# Altium footprint library микросхемы прочие.PcbLib: 30 footprints (part 1 of 2)
Each footprint in its own frame and in the unit in brackets; x right, y up, seen from the top. Pads: shape width x height; smd on the part's side, far side on the other; paste and mask are expansions set on the pad; w line width, h text height; cw(c..) or ccw(c..) is an arc to the next point about the centre after c.
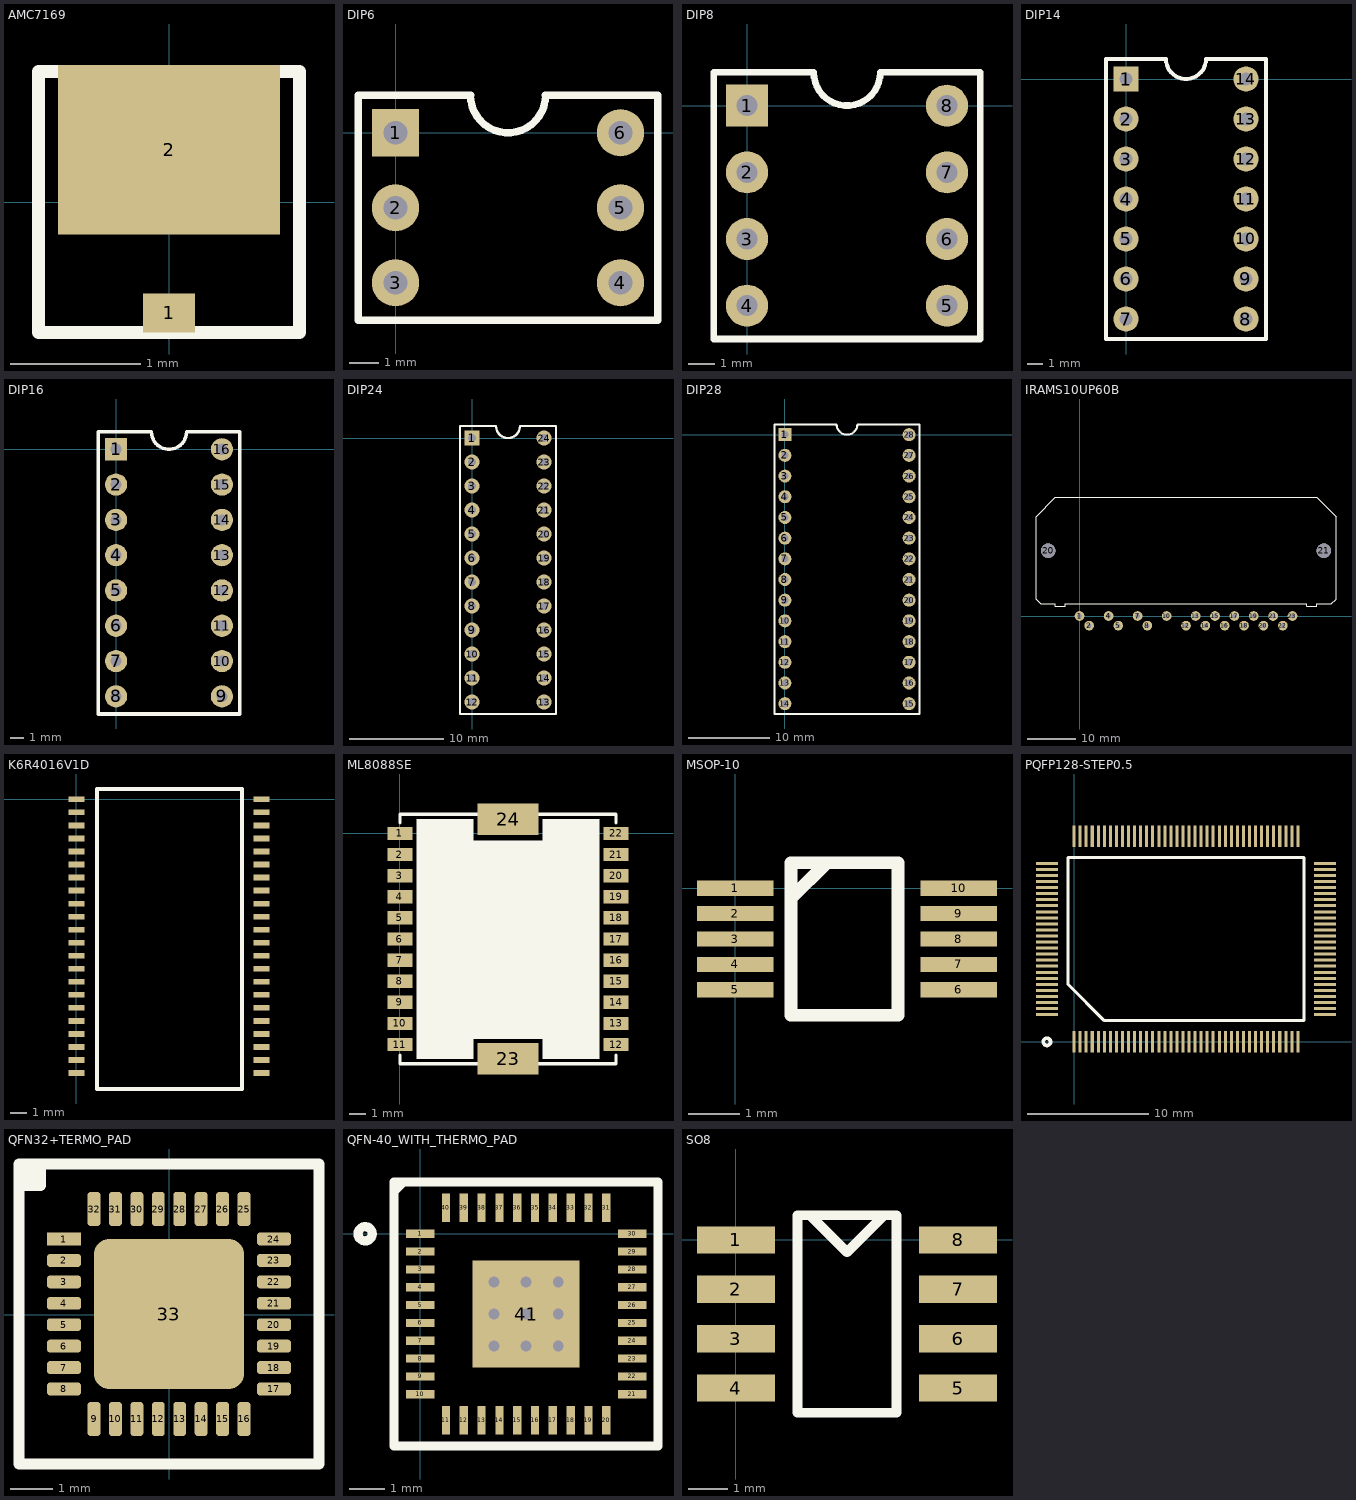
[diagram p0: the footprints below, top view; thin cyan lines are the x and y axes]

## AMC7169 [mm]
pads (2):
  rect 0.4x0.3 smd: 1(0,-0.85)
  rect 1.7x1.3 smd: 2(0,0.4)
Top Overlay:
  lines w0.1: -1,-1 -1,1 1,1 1,-1 -1,-1

## DIP6 [mm]
pads (6):
  rect 1.6x1.6 hole 0.8: 1(0,0)
  round 1.6 hole 0.8: 2(0,-2.54) 3(0,-5.08) 4(7.62,-5.08) 5(7.62,-2.54) 6(7.62,0)
Top Overlay:
  lines w0.254: -1.27,-6.35 8.89,-6.35 8.89,1.27 5.08,1.27 cw(c3.81,1.27) 2.54,1.27 -1.27,1.27 -1.27,-6.35

## DIP8 [mm]
pads (8):
  rect 1.6x1.6 hole 0.8: 1(0,0)
  round 1.6 hole 0.8: 2(0,-2.54) 3(0,-5.08) 4(0,-7.62) 5(7.62,-7.62) 6(7.62,-5.08) 7(7.62,-2.54) 8(7.62,0)
Top Overlay:
  lines w0.254: -1.27,-8.89 8.89,-8.89 8.89,1.27 5.08,1.27 cw(c3.81,1.27) 2.54,1.27 -1.27,1.27 -1.27,-8.89

## DIP14 [mm]
pads (14):
  rect 1.6x1.6 hole 0.8: 1(0,0)
  round 1.6 hole 0.8: 2(0,-2.54) 3(0,-5.08) 4(0,-7.62) 5(0,-10.16) 6(0,-12.7) 7(0,-15.24) 8(7.62,-15.24) 9(7.62,-12.7) 10(7.62,-10.16) 11(7.62,-7.62) 12(7.62,-5.08) 13(7.62,-2.54) 14(7.62,0)
Top Overlay:
  lines w0.254: -1.27,-16.51 8.89,-16.51 8.89,1.27 5.08,1.27 cw(c3.81,1.27) 2.54,1.27 -1.27,1.27 -1.27,-16.51
3D body "User Library-DIP14_Pins Narrow_1.sldprt": height 2.58, standoff -3.81, extent 6.512,-15.978 7.712,-14.478
3D body "User Library-DIP14_Pins Narrow_1.sldprt": height 2.58, standoff -3.81, extent 6.512,-13.438 7.712,-11.938
3D body "User Library-DIP14_Pins Narrow_1.sldprt": height 2.58, standoff -3.81, extent 6.512,-10.898 7.712,-9.398
3D body "User Library-DIP14_Pins Narrow_1.sldprt": height 2.58, standoff -3.81, extent 6.512,-8.358 7.712,-6.858
3D body "User Library-DIP14_Pins Narrow_1.sldprt": height 2.58, standoff -3.81, extent 6.512,-5.818 7.712,-4.318
3D body "User Library-DIP14_Pins Narrow_1.sldprt": height 2.58, standoff -3.81, extent 6.512,-3.278 7.712,-1.778
3D body "User Library-DIP14_Pins Narrow_1.sldprt": height 2.58, standoff -3.81, extent 6.512,-0.738 7.712,0.762
3D body "User Library-DIP14_Pins Narrow_1.sldprt": height 2.58, standoff -3.81, extent -0.057,-13.45 1.143,-11.95
3D body "User Library-DIP14_Pins Narrow_1.sldprt": height 2.58, standoff -3.81, extent -0.057,-10.91 1.143,-9.41
3D body "User Library-DIP14_Pins Narrow_1.sldprt": height 2.58, standoff -3.81, extent -0.057,-8.37 1.143,-6.87
3D body "User Library-DIP14_Pins Narrow_1.sldprt": height 2.58, standoff -3.81, extent -0.057,-5.83 1.143,-4.33
3D body "User Library-DIP14_K_X_F6rper DIP14-DIP16_1.sldprt": height 4.57, standoff 0.38, extent 0.51,-17.335 7.11,2.095
3D body "User Library-DIP14_Pins Narrow_1.sldprt": height 2.58, standoff -3.81, extent -0.057,-0.75 1.143,0.75
3D body "User Library-DIP14_Pins Narrow_1.sldprt": height 2.58, standoff -3.81, extent -0.057,-3.29 1.143,-1.79
3D body "User Library-DIP14_Pins Narrow_1.sldprt": height 2.58, standoff -3.81, extent -0.057,-15.99 1.143,-14.49

## DIP16 [mm]
pads (16):
  rect 1.6x1.6 hole 0.8: 1(0,0)
  round 1.6 hole 0.8: 2(0,-2.54) 3(0,-5.08) 4(0,-7.62) 5(0,-10.16) 6(0,-12.7) 7(0,-15.24) 8(0,-17.78) 9(7.62,-17.78) 10(7.62,-15.24) 11(7.62,-12.7) 12(7.62,-10.16) 13(7.62,-7.62) 14(7.62,-5.08) 15(7.62,-2.54) 16(7.62,0)
Top Overlay:
  lines w0.254: -1.27,-19.05 8.89,-19.05 8.89,1.27 5.08,1.27 cw(c3.81,1.27) 2.54,1.27 -1.27,1.27 -1.27,-19.05

## DIP24 [mm]
pads (24):
  rect 1.6x1.6 hole 0.8: 1(0,0)
  round 1.6 hole 0.8: 2(0,-2.54) 3(0,-5.08) 4(0,-7.62) 5(0,-10.16) 6(0,-12.7) 7(0,-15.24) 8(0,-17.78) 9(0,-20.32) 10(0,-22.86) 11(0,-25.4) 12(0,-27.94) 13(7.62,-27.94) 14(7.62,-25.4) 15(7.62,-22.86) 16(7.62,-20.32) 17(7.62,-17.78) 18(7.62,-15.24) 19(7.62,-12.7) 20(7.62,-10.16) 21(7.62,-7.62) 22(7.62,-5.08) 23(7.62,-2.54) 24(7.62,0)
Top Overlay:
  lines w0.254: -1.27,-29.21 8.89,-29.21 8.89,1.27 5.08,1.27 cw(c3.81,1.27) 2.54,1.27 -1.27,1.27 -1.27,-29.21

## DIP28 [mm]
pads (28):
  rect 1.6x1.6 hole 0.9: 1(0,0)
  round 1.6 hole 0.9: 2(0,-2.54) 3(0,-5.08) 4(0,-7.62) 5(0,-10.16) 6(0,-12.7) 7(0,-15.24) 8(0,-17.78) 9(0,-20.32) 10(0,-22.86) 11(0,-25.4) 12(0,-27.94) 13(0,-30.48) 14(0,-33.02) 15(15.24,-33.02) 16(15.24,-30.48) 17(15.24,-27.94) 18(15.24,-25.4) 19(15.24,-22.86) 20(15.24,-20.32) 21(15.24,-17.78) 22(15.24,-15.24) 23(15.24,-12.7) 24(15.24,-10.16) 25(15.24,-7.62) 26(15.24,-5.08) 27(15.24,-2.54) 28(15.24,0)
Top Overlay:
  lines w0.254: -1.27,-34.29 16.51,-34.29 16.51,1.27 8.89,1.27 cw(c7.62,1.27) 6.35,1.27 -1.27,1.27 -1.27,-34.29

## IRAMS10UP60B [mm]
pads (21):
  round 2 hole 1: 1(0,0) 2(2,-2) 4(6,0) 5(8,-2) 7(12,0) 8(14,-2) 10(18,0) 12(22,-2) 13(24,0) 14(26,-2) 15(28,0) 16(30,-2) 17(32,0) 18(34,-2) 19(36,0) 20(38,-2) 21(40,0) 22(42,-2) 23(44,0)
  round 3 hole 3: 20(-6.5,13.5) 21(50.5,13.5)
Top Overlay:
  lines w0.254: -9,3.5 -8,2.5 -5,2.5 -5,2 -3,2 -3,2.5 47,2.5 47,2 49,2 49,2.5 52,2.5 53,3.5 53,20.5 49,24.5 -5,24.5 -9,20.5 -9,3.5

## K6R4016V1D [mm]
pads (44):
  rect 1x0.35 smd: 1(0,0) 2(0,-0.8) 3(0,-1.6) 4(0,-2.4) 5(0,-3.2) 6(0,-4) 7(0,-4.8) 8(0,-5.6) 9(0,-6.4) 10(0,-7.2) 11(0,-8) 12(0,-8.8) 13(0,-9.6) 14(0,-10.4) 15(0,-11.2) 16(0,-12) 17(0,-12.8) 18(0,-13.6) 19(0,-14.4) 20(0,-15.2) 21(0,-16) 22(0,-16.8) 23(11.36,-16.8) 24(11.36,-16) 25(11.36,-15.2) 26(11.36,-14.4) 27(11.36,-13.6) 28(11.36,-12.8) 29(11.36,-12) 30(11.36,-11.2) 31(11.36,-10.4) 32(11.36,-9.6) 33(11.36,-8.8) 34(11.36,-8) 35(11.36,-7.2) 36(11.36,-6.4) 37(11.36,-5.6) 38(11.36,-4.8) 39(11.36,-4) 40(11.36,-3.2) 41(11.36,-2.4) 42(11.36,-1.6) 43(11.36,-0.8) 44(11.36,0)
Top Overlay:
  lines w0.254: 1.27,-17.78 10.16,-17.78 10.16,0.635 1.27,0.635 1.27,-17.78

## ML8088SE [mm]
pads (24):
  rect 1.5x0.8 smd: 1(0,0) 2(0,-1.27) 3(0,-2.54) 4(0,-3.81) 5(0,-5.08) 6(0,-6.35) 7(0,-7.62) 8(0,-8.89) 9(0,-10.16) 10(0,-11.43) 11(0,-12.7) 12(13,-12.7) 13(13,-11.43) 14(13,-10.16) 15(13,-8.89) 16(13,-7.62) 17(13,-6.35) 18(13,-5.08) 19(13,-3.81) 20(13,-2.54) 21(13,-1.27) 22(13,0)
  rect 3.65x1.9 smd: 23(6.5,-13.55) 24(6.5,0.85)
Top Overlay:
  region: 1,0.85 1,-13.55 4.4,-13.55 4.4,-12.35 8.6,-12.35 8.6,-13.55 12,-13.55 12,0.85 8.6,0.85 8.6,-0.45 4.4,-0.45 4.4,0.85
  lines w0.2: 0,-13.35 0,-13.85 13,-13.85 13,-13.35 ; 0,0.65 0,1.15 13,1.15 13,0.65

## MSOP-10 [mm]
pads (10):
  rect 1.5x0.3 smd: 1(0,0) 2(0,-0.5) 3(0,-1) 4(0,-1.5) 5(0,-2) 6(4.4,-2) 7(4.4,-1.5) 8(4.4,-1) 9(4.4,-0.5) 10(4.4,0)
Top Overlay:
  lines w0.254: 1.1,-0.2 1.8,0.5 ; 1.1,-2.5 3.2,-2.5 3.2,0.5 1.1,0.5 1.1,-2.5

## PCBComponent_1 [mm]

## PQFP128-STEP0.5 [mm]
pads (128):
  rect 0.25x1.8 smd: 1(0,0) 2(0.5,0) 3(1,0) 4(1.5,0) 5(2,0) 6(2.5,0) 7(3,0) 8(3.5,0) 9(4,0) 10(4.5,0) 11(5,0) 12(5.5,0) 13(6,0) 14(6.5,0) 15(7,0) 16(7.5,0) 17(8,0) 18(8.5,0) 19(9,0) 20(9.5,0) 21(10,0) 22(10.5,0) 23(11,0) 24(11.5,0) 25(12,0) 26(12.5,0) 27(13,0) 28(13.5,0) 29(14,0) 30(14.5,0) 31(15,0) 32(15.5,0) 33(16,0) 34(16.5,0) 35(17,0) 36(17.5,0) 37(18,0) 38(18.5,0) 65(18.5,17) 66(18,17) 67(17.5,17) 68(17,17) 69(16.5,17) 70(16,17) 71(15.5,17) 72(15,17) 73(14.5,17) 74(14,17) 75(13.5,17) 76(13,17) 77(12.5,17) 78(12,17) 79(11.5,17) 80(11,17) 81(10.5,17) 82(10,17) 83(9.5,17) 84(9,17) 85(8.5,17) 86(8,17) 87(7.5,17) 88(7,17) 89(6.5,17) 90(6,17) 91(5.5,17) 92(5,17) 93(4.5,17) 94(4,17) 95(3.5,17) 96(3,17) 97(2.5,17) 98(2,17) 99(1.5,17) 100(1,17) 101(0.5,17) 102(0,17)
  rect 1.8x0.25 smd: 39(20.75,2.25) 40(20.75,2.75) 41(20.75,3.25) 42(20.75,3.75) 43(20.75,4.25) 44(20.75,4.75) 45(20.75,5.25) 46(20.75,5.75) 47(20.75,6.25) 48(20.75,6.75) 49(20.75,7.25) 50(20.75,7.75) 51(20.75,8.25) 52(20.75,8.75) 53(20.75,9.25) 54(20.75,9.75) 55(20.75,10.25) 56(20.75,10.75) 57(20.75,11.25) 58(20.75,11.75) 59(20.75,12.25) 60(20.75,12.75) 61(20.75,13.25) 62(20.75,13.75) 63(20.75,14.25) 64(20.75,14.75) 103(-2.25,14.75) 104(-2.25,14.25) 105(-2.25,13.75) 106(-2.25,13.25) 107(-2.25,12.75) 108(-2.25,12.25) 109(-2.25,11.75) 110(-2.25,11.25) 111(-2.25,10.75) 112(-2.25,10.25) 113(-2.25,9.75) 114(-2.25,9.25) 115(-2.25,8.75) 116(-2.25,8.25) 117(-2.25,7.75) 118(-2.25,7.25) 119(-2.25,6.75) 120(-2.25,6.25) 121(-2.25,5.75) 122(-2.25,5.25) 123(-2.25,4.75) 124(-2.25,4.25) 125(-2.25,3.75) 126(-2.25,3.25) 127(-2.25,2.75) 128(-2.25,2.25)
Top Overlay:
  circle w0.3: c-2.25,0 r0.3
  lines w0.254: -0.5,4.75 2.5,1.75 19,1.75 19,15.25 -0.5,15.25 -0.5,4.75

## QFN32+TERMO_PAD [mm]
pads (33):
  rect 0.8x0.3 smd mask+0.02: 1(-2.453,1.764)
  rrect50% 0.8x0.3 smd mask+0.02: 2(-2.453,1.264) 3(-2.453,0.764) 4(-2.453,0.264) 5(-2.453,-0.236) 6(-2.453,-0.736) 7(-2.453,-1.236) 8(-2.453,-1.736) 17(2.447,-1.736) 18(2.447,-1.236) 19(2.447,-0.736) 20(2.447,-0.236) 21(2.447,0.264) 22(2.447,0.764) 23(2.447,1.264) 24(2.447,1.764)
  rrect50% 0.3x0.8 smd mask+0.02: 9(-1.753,-2.436) 10(-1.253,-2.436) 11(-0.753,-2.436) 12(-0.253,-2.436) 13(0.247,-2.436) 14(0.747,-2.436) 15(1.247,-2.436) 16(1.747,-2.436) 25(1.747,2.464) 26(1.247,2.464) 27(0.747,2.464) 28(0.247,2.464) 29(-0.253,2.464) 30(-0.753,2.464) 31(-1.253,2.464) 32(-1.753,2.464)
  rrect20% 3.5x3.5 smd mask+0.02: 33(-0.003,0.014)
Top Overlay:
  lines w0.254: -3.503,3.514 -3.003,3.014 ; -3.503,3.514 -3.503,-3.486 3.497,-3.486 3.497,3.514 -3.503,3.514 ; -3.003,3.014 -3.503,3.014 -3.003,3.514 -3.003,3.014
3D body "User Library-QFN32-1.SLDPRT": height 0.9, standoff -0.03, extent -2.503,-2.486 2.498,2.514

## QFN-40_WITH_THERMO_PAD [mm]
pads (41):
  rect 0.8x0.23 smd: 1(0,0) 2(0,-0.5) 3(0,-1) 4(0,-1.5) 5(0,-2) 6(0,-2.5) 7(0,-3) 8(0,-3.5) 9(0,-4) 10(0,-4.5) 21(5.95,-4.5) 22(5.95,-4) 23(5.95,-3.5) 24(5.95,-3) 25(5.95,-2.5) 26(5.95,-2) 27(5.95,-1.5) 28(5.95,-1) 29(5.95,-0.5) 30(5.95,0)
  rect 0.23x0.8 smd: 11(0.725,-5.225) 12(1.225,-5.225) 13(1.725,-5.225) 14(2.225,-5.225) 15(2.725,-5.225) 16(3.225,-5.225) 17(3.725,-5.225) 18(4.225,-5.225) 19(4.725,-5.225) 20(5.225,-5.225) 31(5.225,0.725) 32(4.725,0.725) 33(4.225,0.725) 34(3.725,0.725) 35(3.225,0.725) 36(2.725,0.725) 37(2.225,0.725) 38(1.725,0.725) 39(1.225,0.725) 40(0.725,0.725)
  rect 3x3 smd: 41(2.975,-2.25)
via 2.975,-2.25 diameter 0.6 hole 0.3
via 2.075,-2.25 diameter 0.6 hole 0.3
via 2.975,-1.35 diameter 0.6 hole 0.3
via 2.075,-1.35 diameter 0.6 hole 0.3
via 2.975,-3.15 diameter 0.6 hole 0.3
via 2.075,-3.15 diameter 0.6 hole 0.3
via 3.875,-2.25 diameter 0.6 hole 0.3
via 3.875,-1.35 diameter 0.6 hole 0.3
via 3.875,-3.15 diameter 0.6 hole 0.3
Top Overlay:
  circle w0.254: c-1.54,0 r0.2
  lines w0.254: -0.725,1.2 -0.475,1.45 ; -0.725,-5.95 6.675,-5.95 6.675,1.45 -0.725,1.45 -0.725,-5.95

## SO8 [mm]
pads (8):
  rect 2x0.7 smd: 1(0,0) 2(0,-1.27) 3(0,-2.54) 4(0,-3.81) 5(5.715,-3.81) 6(5.715,-2.54) 7(5.715,-1.27) 8(5.715,0)
Top Overlay:
  lines w0.254: 1.905,0.635 2.857,-0.318 3.81,0.635 ; 1.587,-4.445 4.127,-4.445 4.127,0.635 1.587,0.635 1.587,-4.445